# Altium footprint library TI.PcbLib: 5 footprints
Each footprint in its own frame and in the unit in brackets; x right, y up, seen from the top. Pads: shape width x height; smd on the part's side, far side on the other; paste and mask are expansions set on the pad; w line width, h text height; cw(c..) or ccw(c..) is an arc to the next point about the centre after c.
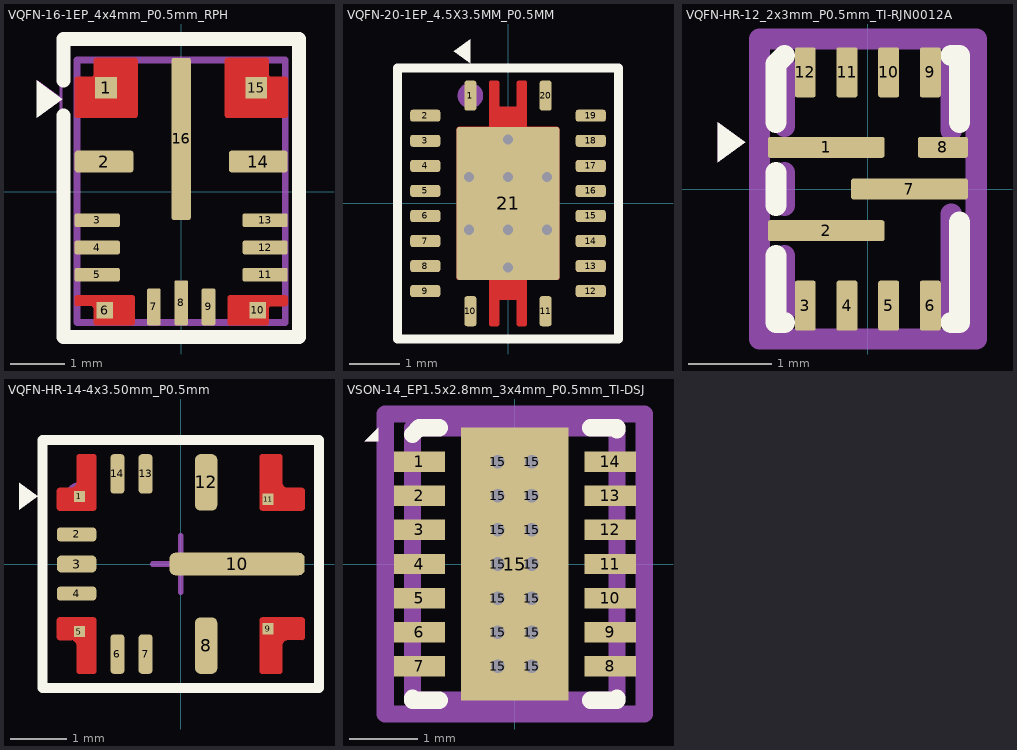
[diagram p0: the footprints below, top view; thin cyan lines are the x and y axes]

## VQFN-16-1EP_4x4mm_P0.5mm_RPH [mm]
pads (16):
  rect 0.4x0.4 smd: 1(-1.375,1.9) 15(1.375,1.9)
  rrect25% 1.075x0.4 smd: 2(-1.413,0.55) 14(1.413,0.55)
  rrect25% 0.825x0.25 smd: 3(-1.538,-0.525) 4(-1.538,-1.025) 11(1.538,-1.525) 12(1.538,-1.025)
  rrect26% 0.825x0.25 smd: 5(-1.538,-1.525) 13(1.538,-0.525)
  rect 0.3x0.3 smd: 6(-1.4,-2.175) 10(1.4,-2.175)
  rrect25% 0.25x0.675 smd: 7(-0.5,-2.113) 9(0.5,-2.113)
  rrect25% 0.25x0.825 smd: 8(0,-2.038)
  rrect25% 0.35x2.975 smd: 16(0,0.963)
Top Layer:
  region: 174 vertices and 0 holes, not listed, extent -1.95,1.35 -0.8,2.45
  region: 174 vertices and 0 holes, not listed, extent -1.95,-2.45 -0.85,-1.9
  region: 174 vertices and 0 holes, not listed, extent 0.85,-2.45 1.95,-1.9
  region: 174 vertices and 0 holes, not listed, extent 0.8,1.35 1.95,2.45
Top Overlay:
  region: -2.178,1.694 -2.648,1.354 -2.648,2.034
  lines w0.254: -2.159,1.397 -2.159,-2.667 2.159,-2.667 2.159,2.794 -2.159,2.794 -2.159,2.032
Top Paste:
  drawing of 4 lines, arcs and shapes, not listed
Top Solder:
  drawing of 4 lines, arcs and shapes, not listed
Top Assembly:
  region: -2.167,1.701 -2.637,1.361 -2.637,2.041
  lines w0.127: -1.905,-2.4 -1.905,2.413 1.905,2.413 1.905,-2.4 -1.905,-2.4
Top Courtyard:
  lines w0.05: -2.201,-2.701 -2.201,2.701 2.201,2.701 2.201,-2.701 -2.201,-2.701
Top Designator:
  text ".Designator" at -3.772,-0.345 h1.52
3D body "LM61495RPHR.step": height 1, standoff 0, extent -1.75,-2.25 1.75,2.25

## VQFN-20-1EP_4.5X3.5MM_P0.5MM [mm] "VQFN-20-1EP_4.5X3.5MM_P0.5MM"
pads (21):
  rrect42% 0.24x0.6 smd mask+0.07: 1(-0.75,2.15) 10(-0.75,-2.15) 11(0.75,-2.15) 20(0.75,2.15)
  rrect42% 0.6x0.24 smd mask+0.07: 2(-1.65,1.75) 3(-1.65,1.25) 4(-1.65,0.75) 5(-1.65,0.25) 6(-1.65,-0.25) 7(-1.65,-0.75) 8(-1.65,-1.25) 9(-1.65,-1.75) 12(1.65,-1.75) 13(1.65,-1.25) 14(1.65,-0.75) 15(1.65,-0.25) 16(1.65,0.25) 17(1.65,0.75) 18(1.65,1.25) 19(1.65,1.75)
  rrect5% 2.05x3.05 smd paste-3: 21(0,0)
via 0,1.275 diameter 0.2 hole 0.2
via 0,0.525 diameter 0.2 hole 0.2
via 0.775,0.525 diameter 0.2 hole 0.2
via -0.775,0.525 diameter 0.2 hole 0.2
via -0.775,-0.525 diameter 0.2 hole 0.2
via 0,-0.525 diameter 0.2 hole 0.2
via 0.775,-0.525 diameter 0.2 hole 0.2
via 0,-1.275 diameter 0.2 hole 0.2
Top Layer:
  region: 380 vertices and 0 holes, not listed, extent -1.025,-2.45 1.025,2.45
Top Overlay:
  region: -1.08,3.04 -0.75,3.28 -0.75,2.8
  lines w0.18: -2.204,-2.704 2.204,-2.704 2.204,2.704 -2.204,2.704 -2.204,-2.704
Top Paste:
  drawing of 8 lines, arcs and shapes, not listed
Top Solder:
  drawing of 1 lines, arcs and shapes, not listed
Top Component Center:
  lines w0.1: -0.5,0 0.5,0 ; 0,-0.5 0,0.5
Top Assembly:
  circle w0.254: c-0.75,2.15 r0.127
  lines w0.1: -2.204,-2.704 -2.204,2.704 2.204,2.704 2.204,-2.704 -2.204,-2.704
Top Courtyard:
  lines w0.05: -2.204,-2.704 2.204,-2.704 2.204,2.704 -2.204,2.704 -2.204,-2.704
Top Designator:
  text ".Designator" at -3.434,-0.345 h1.52
3D body "TPS61088QRHLRQ1.STEP": height 1, standoff 0, extent -1.75,-2.25 1.75,2.25

## VQFN-HR-12_2x3mm_P0.5mm_TI-RJN0012A [mm]
pads (12):
  rrect20% 1.4x0.25 smd: 1(-0.5,0.5) 2(-0.5,-0.5) 7(0.5,0)
  rrect20% 0.25x0.6 smd: 3(-0.75,-1.4) 4(-0.25,-1.4) 5(0.25,-1.4) 6(0.75,-1.4) 9(0.75,1.4) 10(0.25,1.4) 11(-0.25,1.4) 12(-0.75,1.4)
  rrect20% 0.6x0.25 smd: 8(0.9,0.5)
Top Overlay:
  region: -1.47,0.56 -1.8,0.32 -1.8,0.8
  lines w0.254: -1.1,-0.8 -1.1,-1.6 -1,-1.6 ; -1.1,-0.2 -1.1,0.2 ; -1.1,0.8 -1.1,1.5 -1,1.6 ; 1,-1.6 1.1,-1.6 1.1,-0.4 ; 1,1.6 1.1,1.6 1.1,0.8
Top Paste:
  drawing of 15 lines, arcs and shapes, not listed
Top Solder:
  drawing of 12 lines, arcs and shapes, not listed
Top Assembly:
  region: -1.47,0.56 -1.8,0.32 -1.8,0.8
  lines w0.254: -1,-1.5 -1,-0.8 ; -1,-0.2 -1,0.2 ; -1,0.75 -1,1.5 ; 1,-1.5 1,-0.3 ; 1,0.7 1,1.5
Top Courtyard:
  lines w0.254: -1.3,-1.8 -1.3,1.8 1.3,1.8 1.3,-1.8 -1.3,-1.8
3D body "VQFN-HR-12_2x3mm_P0.5mm_TI-RJN0012A.step": height 1, standoff 0, extent -1,-1.5 1,1.5

## VQFN-HR-14-4x3.50mm_P0.5mm [mm]
pads (14):
  rect 0.2x0.2 smd paste-1 mask+0: 1(-1.8,1.2) 5(-1.8,-1.2) 9(1.55,-1.15) 11(1.55,1.15)
  rrect50% 0.7x0.25 smd mask+0: 2(-1.85,0.525) 4(-1.85,-0.525)
  rrect50% 0.7x0.3 smd mask+0: 3(-1.85,0)
  rrect50% 0.25x0.7 smd mask+0: 6(-1.125,-1.6) 7(-0.625,-1.6) 13(-0.625,1.6) 14(-1.125,1.6)
  rrect50% 0.4x1 smd mask+0: 8(0.45,-1.45) 12(0.45,1.45)
  rrect50% 2.4x0.4 smd paste-2 mask+0: 10(1,0)
Top Layer:
  region: 175 vertices and 0 holes, not listed, extent 1.4,-1.95 2.2,-0.95
  region: 175 vertices and 0 holes, not listed, extent 1.4,0.95 2.2,1.95
  region: 175 vertices and 0 holes, not listed, extent -2.2,-1.95 -1.5,-0.95
  region: 175 vertices and 0 holes, not listed, extent -2.2,0.95 -1.5,1.95
Top Overlay:
  region: -2.543,1.201 -2.873,0.961 -2.873,1.441
  lines w0.18: -2.454,-2.204 -2.454,2.204 2.454,2.204 2.454,-2.204 -2.454,-2.204
Top Paste:
  drawing of 6 lines, arcs and shapes, not listed
Top Solder:
  drawing of 14 lines, arcs and shapes, not listed
Top Component Center:
  lines w0.1: -0.5,0 0.5,0 ; 0,-0.5 0,0.5
Top Assembly:
  circle w0.254: c-1.8,1.2 r0.127
  lines w0.1: -2.454,-2.204 2.454,-2.204 2.454,2.204 -2.454,2.204 -2.454,-2.204
Top Courtyard:
  lines w0.05: -2.454,-2.204 -2.454,2.204 2.454,2.204 2.454,-2.204 -2.454,-2.204
Top Designator:
  text ".Designator" at -3.434,-0.345 h1.52
3D body "step_temp.STEP": height 1, standoff 0, extent -2,-1.75 2,1.75

## VSON-14_EP1.5x2.8mm_3x4mm_P0.5mm_TI-DSJ [mm]
pads (29):
  rect 0.75x0.3 smd: 1(-1.4,1.5) 2(-1.4,1) 3(-1.4,0.5) 4(-1.4,0) 5(-1.4,-0.5) 6(-1.4,-1) 7(-1.4,-1.5) 8(1.4,-1.5) 9(1.4,-1) 10(1.4,-0.5) 11(1.4,0) 12(1.4,0.5) 13(1.4,1) 14(1.4,1.5)
  round 0.3 hole 0.2: 15(-0.25,-1.5) 15(-0.25,-1) 15(-0.25,-0.5) 15(-0.25,0) 15(-0.25,0.5) 15(-0.25,1) 15(-0.25,1.5) 15(0.25,-1.5) 15(0.25,-1) 15(0.25,-0.5) 15(0.25,0) 15(0.25,0.5) 15(0.25,1) 15(0.25,1.5)
  rect 1.58x4 smd: 15(0,0)
Top Overlay:
  region: -2,1.8 -2.2,1.8 -2,2
  lines w0.254: -1.5,-1.97 -1.5,-2 -1.11,-2 ; -1.5,1.9 -1.4,2 -1.11,2 ; 1.11,-2 1.5,-2 1.5,-1.97 ; 1.11,2 1.5,2 1.5,1.97
Top Paste:
  region: 0.5,-1.265 -0.5,-1.265 -0.5,1.265 0.5,1.265
Top Assembly:
  region: -2,1.8 -2.2,1.8 -2,2
  lines w0.254: -1.5,-2 -1.5,2 1.5,2 1.5,-2 -1.5,-2
Top Courtyard:
  lines w0.254: -1.9,-2.2 -1.9,2.2 1.9,2.2 1.9,-2.2 -1.9,-2.2
3D body "VSON-14_EP1.5x2.8mm_3x4mm_P0.5mm_TI-DSJ.step": height 1, standoff 0, extent -1.5,-2 1.5,2